# Altium footprint library Pcblib_20110825.Pcblib: 407 footprints (part 7 of 26)
Each footprint in its own frame and in the unit in brackets; x right, y up, seen from the top. Pads: shape width x height; smd on the part's side, far side on the other; paste and mask are expansions set on the pad; w line width, h text height; cw(c..) or ccw(c..) is an arc to the next point about the centre after c.
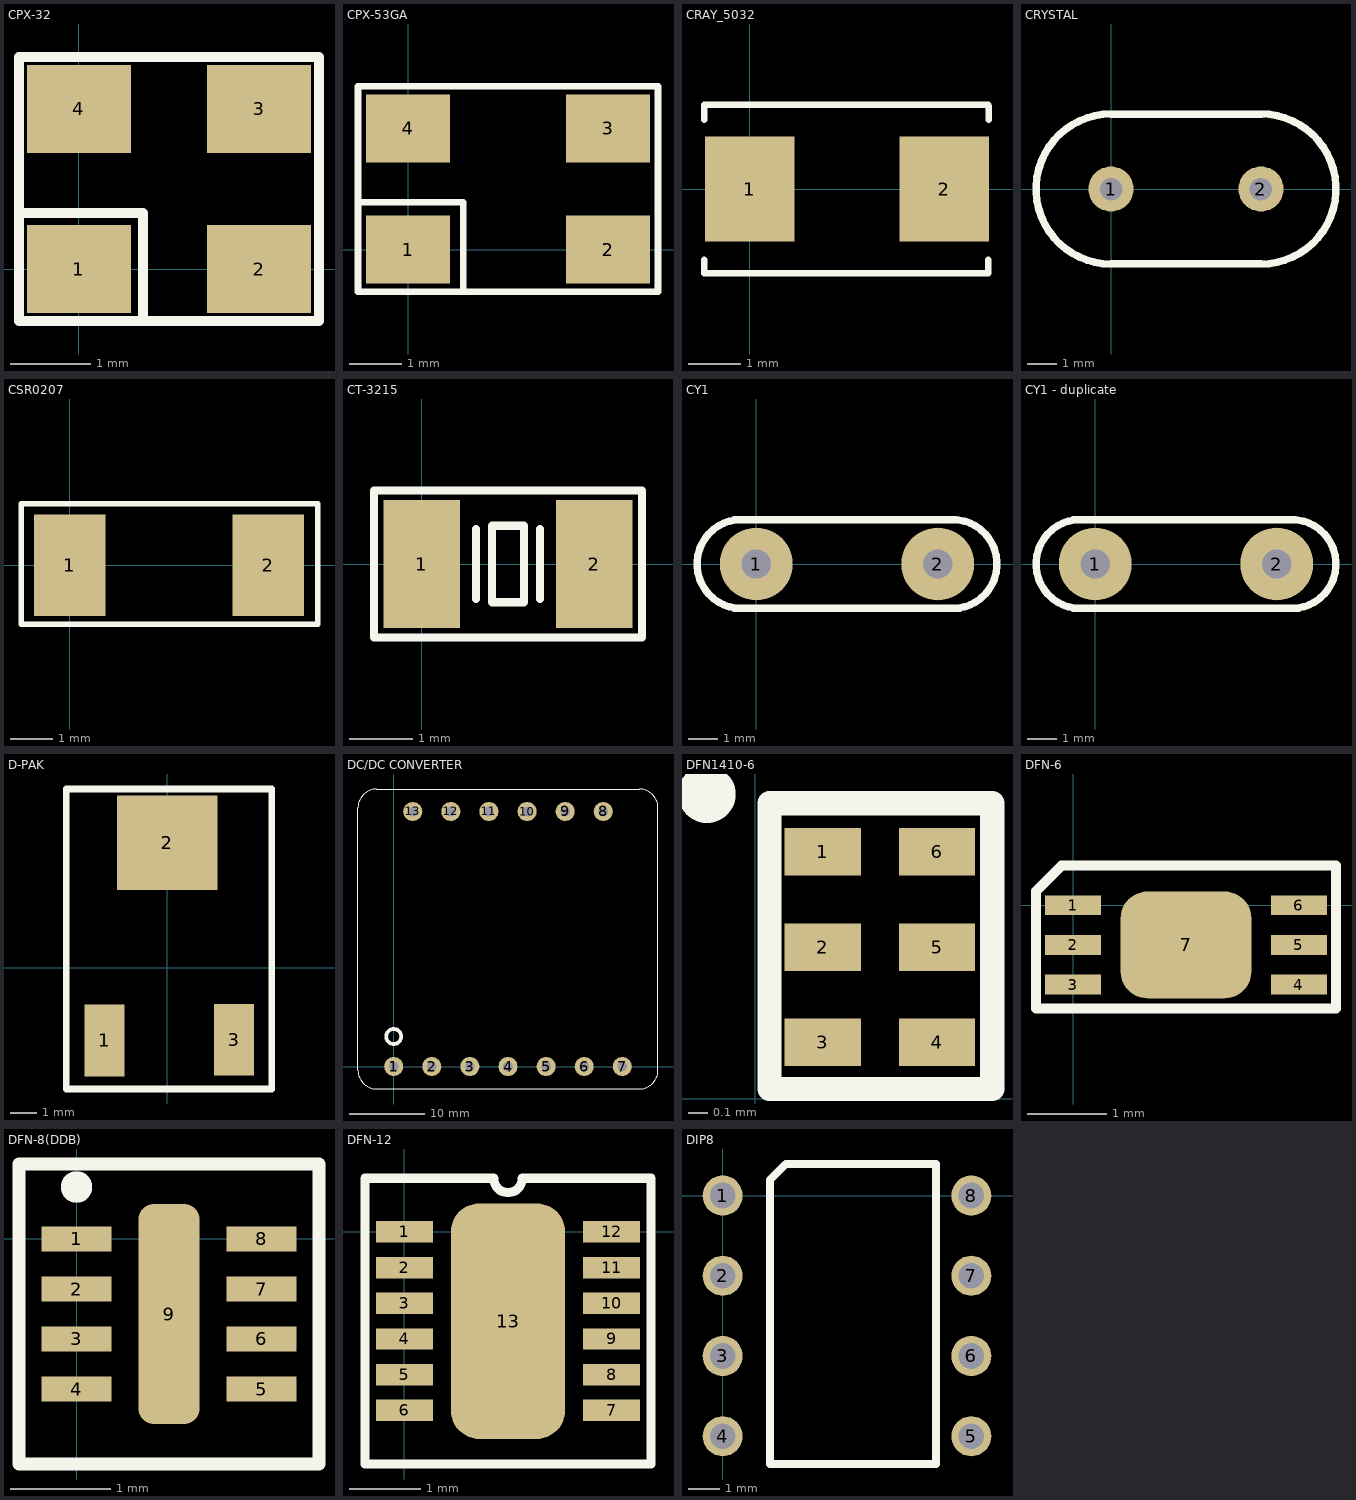
[diagram p6: the footprints below, top view; thin cyan lines are the x and y axes]

## CPX-32 [mm]
pads (4):
  rect 1.3x1.1 smd: 1(0,0) 2(2.25,0) 3(2.25,2) 4(0,2)
TopOverlay:
  lines w0.127: -0.75,0.7 0.8,0.7 0.8,-0.65 ; -0.75,-0.65 -0.75,2.65 3,2.65 3,-0.65 -0.75,-0.65

## CPX-53GA [mm]
pads (4):
  rect 1.6x1.3 smd: 1(0,0) 2(3.8,0) 3(3.8,2.3) 4(0,2.3)
TopOverlay:
  lines w0.127: -0.95,0.9 1.05,0.9 1.05,-0.8 ; -0.95,-0.8 4.75,-0.8 4.75,3.1 -0.95,3.1 -0.95,-0.8

## CRAY_5032 [mm]
pads (2):
  rect 1.7x2 smd: 1(0,0) 2(3.7,0)
TopOverlay:
  lines w0.125: -0.864,-1.346 -0.864,-1.6 4.536,-1.6 4.536,-1.346 ; -0.864,1.321 -0.864,1.6 4.536,1.6 ; 4.547,1.321 4.547,1.575

## CRYSTAL [mil]
pads (2):
  round 60 hole 30: 1(0,0) 2(200,0)
TopOverlay:
  lines w10: 0,-100 cw(c0,0) 0,100 200,100 cw(c200,0) 200,-100 0,-100

## CSR0207 [mm]
pads (2):
  rect 1.7x2.4 smd: 1(0,0) 2(4.7,0)
TopOverlay:
  lines w0.127: -1.143,-1.397 5.867,-1.397 5.867,1.448 -1.143,1.448 -1.143,-1.397

## CT-3215 [mm]
pads (2):
  rect 1.2x2 smd: 1(0,0) 2(2.7,0)
TopOverlay:
  lines w0.127: 0.85,-0.55 0.85,0.55 ; 1.85,-0.55 1.85,0.55 ; -0.75,-1.15 3.45,-1.15 3.45,1.15 -0.75,1.15 -0.75,-1.15 ; 1.1,-0.6 1.6,-0.6 1.6,0.6 1.1,0.6 1.1,-0.6

## CY1 [mm]
height 29
pads (2):
  round 2.5 hole 1: 1(0,0) 2(6.223,0)
TopOverlay:
  lines w0.254: -0.762,-1.524 6.985,-1.524 ; -0.762,1.524 6.858,1.524 ; -0.508,-1.524 cw(c-0.508,0) -0.508,1.524 ; 6.731,-1.524 ccw(c6.731,0) 6.731,1.524

## CY1 - duplicate [mm]
height 29
pads (2):
  round 2.5 hole 1: 1(0,0) 2(6.223,0)
TopOverlay:
  lines w0.254: -0.762,-1.524 6.985,-1.524 ; -0.762,1.524 6.858,1.524 ; -0.508,-1.524 cw(c-0.508,0) -0.508,1.524 ; 6.731,-1.524 ccw(c6.731,0) 6.731,1.524

## D-PAK [mil]
height 59.06
pads (3):
  rect 59.05x106.61 smd: 1(-93,-108) 3(99,-107)
  rect 149.61x140 smd: 2(0,185)
TopOverlay:
  lines w10: -150,-180 -150,265 155,265 155,-180 -150,-180

## DC/DC CONVERTER [mm]
pads (13):
  round 2.54 hole 1.27: 1(0,0) 2(5.08,0) 3(10.16,0) 4(15.24,0) 5(20.32,0) 6(25.4,0) 7(30.48,0) 8(27.94,34) 9(22.86,34) 10(17.78,34) 11(12.7,34) 12(7.62,34) 13(2.54,34)
TopOverlay:
  circle w0.5: c0,4 r1
  lines w0.127: -4.76,-0.5 ccw(c-2.26,-0.5) -2.26,-3 32.74,-3 ccw(c32.74,-0.5) 35.24,-0.5 35.24,34.5 ccw(c32.74,34.5) 32.74,37 -2.26,37 ccw(c-2.26,34.5) -4.76,34.5 -4.76,-0.5

## DFN1410-6 [mm]
pads (6):
  rect 0.4x0.25 smd: 1(0.356,1.295) 2(0.356,0.795) 3(0.356,0.295) 4(0.956,0.295) 5(0.956,0.795) 6(0.956,1.295)
TopOverlay:
  lines w0.127: 0.076,0.051 0.076,1.551 1.245,1.551 1.245,0.051 0.076,0.051
  lines w0.254: -0.243,1.623 ccw(c-0.254,1.6) -0.23,1.608

## DFN-6 [mm]
pads (7):
  rect 0.7x0.25 smd: 1(0,0) 2(0,-0.5) 3(0,-1) 4(2.85,-1) 5(2.85,-0.5) 6(2.85,0)
  rrect50% 1.65x1.35 smd: 7(1.425,-0.5)
TopOverlay:
  lines w0.127: -0.467,-1.3 -0.467,0.178 -0.144,0.5 3.317,0.5 3.317,-1.3 -0.467,-1.3

## DFN-8(DDB) [mm]
pads (9):
  rect 0.7x0.25 smd: 1(0,0) 2(0,-0.5) 3(0,-1) 4(0,-1.5) 5(1.85,-1.5) 6(1.85,-1) 7(1.85,-0.5) 8(1.85,0)
  rrect50% 0.61x2.2 smd: 9(0.925,-0.75)
TopOverlay:
  circle w0.254: c0,0.52 r0.03
  lines w0.127: -0.575,-2.25 2.425,-2.25 2.425,0.75 -0.575,0.75 -0.575,-2.25

## DFN-12 [mm]
pads (13):
  rect 0.8x0.3 smd: 1(0,0) 2(0,-0.5) 3(0,-1) 4(0,-1.5) 5(0,-2) 6(0,-2.5) 7(2.9,-2.5) 8(2.9,-2) 9(2.9,-1.5) 10(2.9,-1) 11(2.9,-0.5) 12(2.9,0)
  rrect50% 1.6x3.3 smd: 13(1.45,-1.25)
TopOverlay:
  lines w0.127: -0.55,-3.25 3.45,-3.25 3.45,0.75 1.65,0.75 cw(c1.45,0.75) 1.25,0.75 -0.55,0.75 -0.55,-3.25

## DIP8 [mil]
pads (8):
  round 50 hole 32: 1(0,0) 2(0,-100) 3(0,-200) 4(0,-300) 5(310,-300) 6(310,-200) 7(310,-100) 8(310,0)
TopOverlay:
  lines w10: 59.06,-334.65 59.06,19.68 78.74,39.37 265.75,39.37 265.75,-334.65 246.06,-334.65 59.06,-334.65

## DIP28 [mm]